# Altium schematic symbol library IC_Micron_Technology_Inc_MT29F256G08CMCABH2-12Z_eec.SchLib: 1 symbol
Pins are listed as number, name and electrical type; pins without a type are passive.

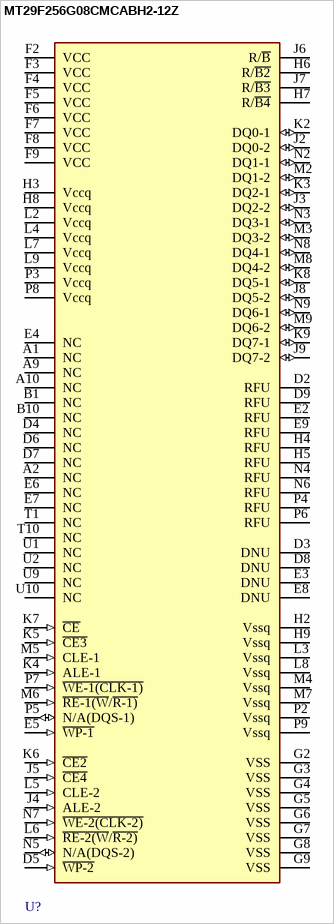
[diagram p0: symbol MT29F256G08CMCABH2-12Z]

## MT29F256G08CMCABH2-12Z
designator U?  (value not drawn)
pins: A1 NC, A2 NC, A9 NC, A10 NC, B1 NC, B10 NC, D2 RFU, D3 DNU, D4 NC, D5 ~{WP-2} (in), D6 NC, D7 NC, D8 DNU, D9 RFU, E2 RFU, E3 DNU, E4 NC, E5 ~{WP-1} (in), E6 NC, E7 NC, E8 DNU, E9 RFU, F2 VCC (power), F3 VCC (power), F4 VCC (power), F5 VCC (power), F6 VCC (power), F7 VCC (power), F8 VCC (power), F9 VCC (power), G2 VSS (power), G3 VSS (power), G4 VSS (power), G5 VSS (power), G6 VSS (power), G7 VSS (power), G8 VSS (power), G9 VSS (power), H2 Vssq (power), H3 Vccq (power), H4 RFU, H5 RFU, H6 R/~{B2}, H7 R/~{B4}, H8 Vccq (power), H9 Vssq (power), J2 DQ0-2 (io), J3 DQ2-2 (io), J4 ALE-2 (in), J5 ~{CE4} (in), J6 R/~{B} (oc), J7 R/~{B3} (oc), J8 DQ5-2 (io), J9 DQ7-2 (io), K2 DQ0-1 (io), K3 DQ2-1 (io), K4 ALE-1 (in), K5 ~{CE3} (in), K6 ~{CE2} (in), K7 ~{CE} (in), K8 DQ5-1 (io), K9 DQ7-1 (io), L2 Vccq (power), L3 Vssq (power), L4 Vccq (power), L5 CLE-2 (in), L6 ~{RE-2(W}/~{R-2)} (in), L7 Vccq (power), L8 Vssq (power), L9 Vccq (power), M2 DQ1-2 (io), M3 DQ3-2 (io), M4 Vssq (power), M5 CLE-1 (in), M6 ~{RE-1(W}/~{R-1)} (in), M7 Vssq (power), M8 DQ4-2 (io), M9 DQ6-2 (io), N2 DQ1-1 (io), N3 DQ3-1 (io), N4 RFU, N5 N/A(DQS-2) (io), N6 RFU, N7 ~{WE-2(CLK-2)} (in), N8 DQ4-1 (io), N9 DQ6-1 (io), P2 Vssq (power), P3 Vccq (power), P4 RFU, P5 N/A(DQS-1) (io), P6 RFU, P7 ~{WE-1(CLK-1)} (in), P8 Vccq (power), P9 Vssq (power), T1 NC, T10 NC, U1 NC, U2 NC, U9 NC, U10 NC